# Altium integrated library APS6404L-3SQR-SN.IntLib: 1 symbol
Pins are listed as number, name and electrical type; pins without a type are passive.

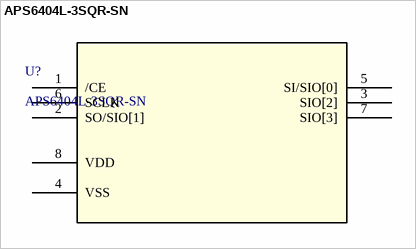
[diagram p0: symbol APS6404L-3SQR-SN]

## APS6404L-3SQR-SN
designator U?
Description; Manufacturer_Name: AP Memory; Copyright: Copyright (C) 2025 Ultra Librarian. All rights reserved.; Manufacturer_Part_Number: APS6404L-3SQR-SN; RefDes: RefDes; Type: Type
footprint APS6404L-3SQR-SN_APY
pins: 1 /CE, 2 SO/SIO[1], 3 SIO[2], 4 VSS, 5 SI/SIO[0], 6 SCLK, 7 SIO[3], 8 VDD